# Altium schematic symbol library SCH - FET - N-CH - INFINEON MOSFET N-CH PG-HSOF-8-1.SCHLIB: 1 symbol
Pins are listed as number, name and electrical type; pins without a type are passive.

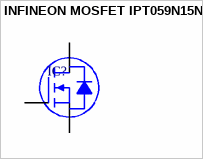
[diagram p0: symbol INFINEON MOSFET IPT059N15N3]

## INFINEON MOSFET IPT059N15N3
designator IC?
pins: D, G, S